# EAGLE library part MMT-104-01-X-DH-X (library samtec)
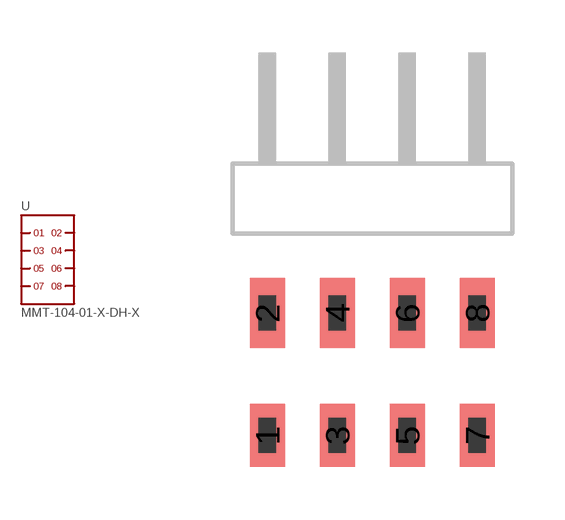
[diagram p20: symbol with the pads of MMT-104-01-X-DH-X; footprint MMT-104-01-X-DH-X]

Designator prefix -

## MMT-104-01-X-DH-X  [MMT-104-01-X-DH-X]
1  1
2  2
3  3
4  4
5  5
6  6
7  7
8  8

## Footprint MMT-104-01-X-DH-X (pad centres in mm)
smd 1 x 1.8: 1 -3,-3.5; 3 -1,-3.5; 5 1,-3.5; 7 3,-3.5
smd 1 x 2: 2 -3,0; 4 -1,0; 6 1,0; 8 3,0